# EAGLE library part LTC2314 (library PARTS 2)
14-Bit, 4.5Msps Serial Sampling ADC in TSOT
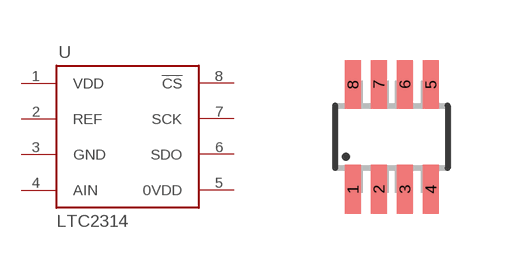
[diagram p1: symbol with the pads of TSOT2308; footprint TSOT2308]

Designator prefix U

## LTC2314  [TSOT2308]
1  VDD
2  REF
3  GND
4  AIN
5  0VDD
6  SDO
7  SCK
8  !CS

## Footprint TSOT2308 (pad centres in mm)
smd 0.4 x 1.22: 1 -0.975,-1.31; 2 -0.325,-1.31; 3 0.325,-1.31; 4 0.975,-1.31; 5 0.975,1.31; 6 0.325,1.31; 7 -0.325,1.31; 8 -0.975,1.31